# EAGLE library part TSL230RD (library umich)
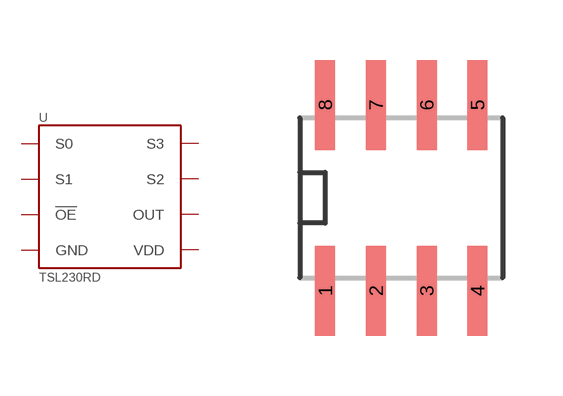
[diagram p10: symbol with the pads of TSL230RD; footprint TSL230RD]

Designator prefix U

## TSL230RD  [TSL230RD]
1  S0
2  S1
3  !OE
4  GND
5  VDD
6  OUT
7  S2
8  S3

## Footprint TSL230RD (pad centres in mm)
smd 0.5 x 2.25: 1 -1.905,-2.325; 2 -0.635,-2.325; 3 0.635,-2.325; 4 1.905,-2.325; 5 1.905,2.325; 6 0.635,2.325; 7 -0.635,2.325; 8 -1.905,2.325